# Altium schematic symbol library WCAP-FTX2.SchLib: 108 symbols (part 1 of 3)
Pins are listed as number, name and electrical type; pins without a type are passive.

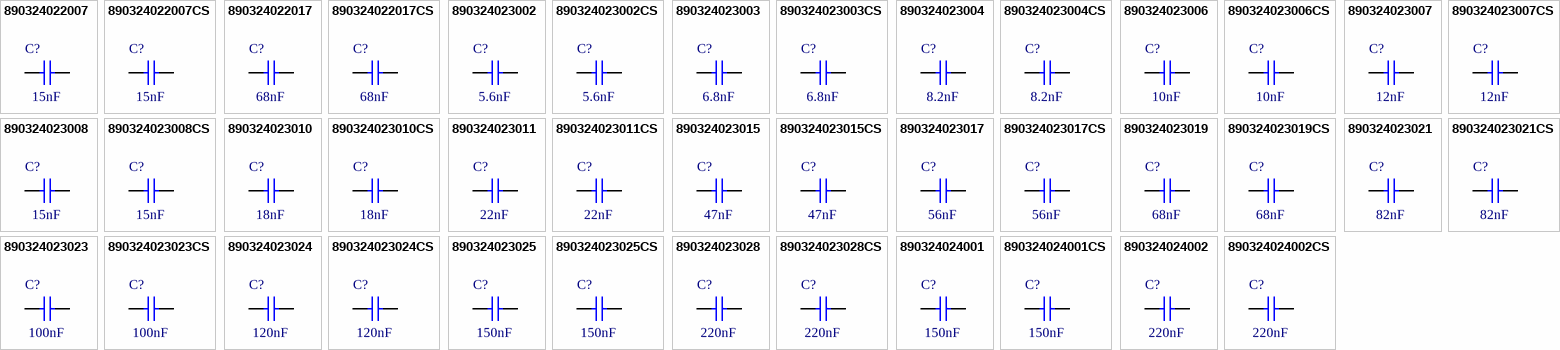
[diagram p0: symbols 890324022007 to 890324024002CS]

## 890324022007
designator C?, comment 15nF
WCAP-FTX2 Film Capacitor, THT, L11 x W6 x H10mm, 15nF, 275V; Manufacturer Part Number: 890324022007; Manufacturer: Wurth Elektronik; Capacitance Tolerance: +/-10%; Dissipation Factor @1kHz: 0.1%; Dissipation Factor @100kHz: 0.5%; Insulation Resistance: 30GΩ; Pitch: 7.5mm; Rate of Voltage Rise: 500V/μs; Technical Reference: MX2P075153K275ASPB15000; Category: Film Capacitors; Match Code: WCAP-FTX2; ComponentLink1Description: Website Link; ComponentLink1URL: https://www.we-online.com/redexpert/article/890324022007?ad; ComponentLink2Description: Datasheet Link; ComponentLink2URL: https://www.we-online.com/redexpert/spec/890324022007?ad; Mount: Through Hole; Min Operating Temperature: -40°C; Max Operating Temperature: 105°C; Packaging: Carton; Length: 11mm; Width: 6mm; Height: 10mm; Capacitance: 15nF; Dissipation Factor @10kHz: 0.1%; Rated Voltage (AC): 275V
footprint WCAP-FTX2_L11W6H10
simulation model 890324022007_15nF
pins: 1, 2

## 890324022007CS
designator C?, comment 15nF
WCAP-FTX2 Film Capacitor, THT, L11 x W6 x H10mm, 15nF, 275V; Manufacturer Part Number: 890324022007CS; Manufacturer: Wurth Elektronik; Capacitance Tolerance: +/-10%; Dissipation Factor @1kHz: 0.1%; Dissipation Factor @100kHz: 0.5%; Insulation Resistance: 30GΩ; Pitch: 7.5mm; Rate of Voltage Rise: 500V/μs; Technical Reference: MX2P075153K275ACPP55004; Category: Film Capacitors; Match Code: WCAP-FTX2; ComponentLink1Description: Website Link; ComponentLink1URL: https://www.we-online.com/redexpert/article/890324022007CS?ad; ComponentLink2Description: Datasheet Link; ComponentLink2URL: https://www.we-online.com/redexpert/spec/890324022007CS?ad; Mount: Through Hole; Min Operating Temperature: -40°C; Max Operating Temperature: 105°C; Packaging: Carton; Length: 11mm; Width: 6mm; Height: 10mm; Capacitance: 15nF; Dissipation Factor @10kHz: 0.1%; Rated Voltage (AC): 275V
footprint WCAP-FTX2_L11W6H10
simulation model 890324022007CS_15nF
pins: 1, 2

## 890324022017
designator C?, comment 68nF
WCAP-FTX2 Film Capacitor, THT, L10 x W6 x H12mm, 68nF, 275V; Manufacturer Part Number: 890324022017; Manufacturer: Wurth Elektronik; Capacitance Tolerance: +/-10%; Dissipation Factor @1kHz: 0.1%; Dissipation Factor @100kHz: 0.5%; Insulation Resistance: 30GΩ; Pitch: 7.5mm; Rate of Voltage Rise: 400V/μs; Technical Reference: MX2P075683K275ASPB15000; Category: Film Capacitors; Match Code: WCAP-FTX2; ComponentLink1Description: Website Link; ComponentLink1URL: https://www.we-online.com/redexpert/article/890324022017?ad; ComponentLink2Description: Datasheet Link; ComponentLink2URL: https://www.we-online.com/redexpert/spec/890324022017?ad; Mount: Through Hole; Min Operating Temperature: -40°C; Max Operating Temperature: 105°C; Packaging: Carton; Length: 10mm; Width: 6mm; Height: 12mm; Capacitance: 68nF; Dissipation Factor @10kHz: 0.1%; Rated Voltage (AC): 275V
footprint WCAP-FTX2_L10W6H12
simulation model 890324022017_68nF
pins: 1, 2

## 890324022017CS
designator C?, comment 68nF
WCAP-FTX2 Film Capacitor, THT, L10 x W6 x H12mm, 68nF, 275V; Manufacturer Part Number: 890324022017CS; Manufacturer: Wurth Elektronik; Capacitance Tolerance: +/-10%; Dissipation Factor @1kHz: 0.1%; Dissipation Factor @100kHz: 0.5%; Insulation Resistance: 30GΩ; Pitch: 7.5mm; Rate of Voltage Rise: 400V/μs; Technical Reference: MX2P075683K275ACPP45004; Category: Film Capacitors; Match Code: WCAP-FTX2; ComponentLink1Description: Website Link; ComponentLink1URL: https://www.we-online.com/redexpert/article/890324022017CS?ad; ComponentLink2Description: Datasheet Link; ComponentLink2URL: https://www.we-online.com/redexpert/spec/890324022017CS?ad; Mount: Through Hole; Min Operating Temperature: -40°C; Max Operating Temperature: 105°C; Packaging: Carton; Length: 10mm; Width: 6mm; Height: 12mm; Capacitance: 68nF; Dissipation Factor @10kHz: 0.1%; Rated Voltage (AC): 275V
footprint WCAP-FTX2_L10W6H12
simulation model 890324022017CS_68nF
pins: 1, 2

## 890324023002
designator C?, comment 5.6nF
WCAP-FTX2 Film Capacitor, THT, L13 x W5 x H10mm, 5.6nF, 275V; Manufacturer Part Number: 890324023002; Manufacturer: Wurth Elektronik; Capacitance Tolerance: +/-10%; Dissipation Factor @1kHz: 0.1%; Dissipation Factor @100kHz: 0.5%; Insulation Resistance: 30GΩ; Pitch: 10mm; Rate of Voltage Rise: 600V/μs; Technical Reference: MX2P010562K275ASPB15000; Category: Film Capacitors; Match Code: WCAP-FTX2; ComponentLink1Description: Website Link; ComponentLink1URL: https://www.we-online.com/redexpert/article/890324023002?ad; ComponentLink2Description: Datasheet Link; ComponentLink2URL: https://www.we-online.com/redexpert/spec/890324023002?ad; Mount: Through Hole; Min Operating Temperature: -40°C; Max Operating Temperature: 105°C; Packaging: Carton; Length: 13mm; Width: 5mm; Height: 10mm; Capacitance: 5.6nF; Dissipation Factor @10kHz: 0.1%; Rated Voltage (AC): 275V
footprint WCAP-FTX2_L13W5H10
simulation model 890324023002_5.6nF
pins: 1, 2

## 890324023002CS
designator C?, comment 5.6nF
WCAP-FTX2 Film Capacitor, THT, L13 x W5 x H10mm, 5.6nF, 275V; Manufacturer Part Number: 890324023002CS; Manufacturer: Wurth Elektronik; Capacitance Tolerance: +/-10%; Dissipation Factor @1kHz: 0.1%; Dissipation Factor @100kHz: 0.5%; Insulation Resistance: 30GΩ; Pitch: 10mm; Rate of Voltage Rise: 600V/μs; Technical Reference: MX2P010562K275ACPP55004; Category: Film Capacitors; Match Code: WCAP-FTX2; ComponentLink1Description: Website Link; ComponentLink1URL: https://www.we-online.com/redexpert/article/890324023002CS?ad; ComponentLink2Description: Datasheet Link; ComponentLink2URL: https://www.we-online.com/redexpert/spec/890324023002CS?ad; Mount: Through Hole; Min Operating Temperature: -40°C; Max Operating Temperature: 105°C; Packaging: Carton; Length: 13mm; Width: 5mm; Height: 10mm; Capacitance: 5.6nF; Dissipation Factor @10kHz: 0.1%; Rated Voltage (AC): 275V
footprint WCAP-FTX2_L13W5H10
simulation model 890324023002CS_5.6nF
pins: 1, 2

## 890324023003
designator C?, comment 6.8nF
WCAP-FTX2 Film Capacitor, THT, L13 x W5 x H10mm, 6.8nF, 275V; Manufacturer Part Number: 890324023003; Manufacturer: Wurth Elektronik; Capacitance Tolerance: +/-10%; Dissipation Factor @1kHz: 0.1%; Dissipation Factor @100kHz: 0.5%; Insulation Resistance: 30GΩ; Pitch: 10mm; Rate of Voltage Rise: 400V/μs; Technical Reference: MX2P010682K275ASPB15000; Category: Film Capacitors; Match Code: WCAP-FTX2; ComponentLink1Description: Website Link; ComponentLink1URL: https://www.we-online.com/redexpert/article/890324023003?ad; ComponentLink2Description: Datasheet Link; ComponentLink2URL: https://www.we-online.com/redexpert/spec/890324023003?ad; Mount: Through Hole; Min Operating Temperature: -40°C; Max Operating Temperature: 105°C; Packaging: Carton; Length: 13mm; Width: 5mm; Height: 10mm; Capacitance: 6.8nF; Dissipation Factor @10kHz: 0.1%; Rated Voltage (AC): 275V
footprint WCAP-FTX2_L13W5H10
simulation model 890324023003_6.8nF
pins: 1, 2

## 890324023003CS
designator C?, comment 6.8nF
WCAP-FTX2 Film Capacitor, THT, L13 x W5 x H10mm, 6.8nF, 275V; Manufacturer Part Number: 890324023003CS; Manufacturer: Wurth Elektronik; Capacitance Tolerance: +/-10%; Dissipation Factor @1kHz: 0.1%; Dissipation Factor @100kHz: 0.5%; Insulation Resistance: 30GΩ; Pitch: 10mm; Rate of Voltage Rise: 400V/μs; Technical Reference: MX2P010682K275ACPP55004; Category: Film Capacitors; Match Code: WCAP-FTX2; ComponentLink1Description: Website Link; ComponentLink1URL: https://www.we-online.com/redexpert/article/890324023003CS?ad; ComponentLink2Description: Datasheet Link; ComponentLink2URL: https://www.we-online.com/redexpert/spec/890324023003CS?ad; Mount: Through Hole; Min Operating Temperature: -40°C; Max Operating Temperature: 105°C; Packaging: Carton; Length: 13mm; Width: 5mm; Height: 10mm; Capacitance: 6.8nF; Dissipation Factor @10kHz: 0.1%; Rated Voltage (AC): 275V
footprint WCAP-FTX2_L13W5H10
simulation model 890324023003CS_6.8nF
pins: 1, 2

## 890324023004
designator C?, comment 8.2nF
WCAP-FTX2 Film Capacitor, THT, L13 x W5 x H10mm, 8.2nF, 275V; Manufacturer Part Number: 890324023004; Manufacturer: Wurth Elektronik; Capacitance Tolerance: +/-10%; Dissipation Factor @1kHz: 0.1%; Dissipation Factor @100kHz: 0.5%; Insulation Resistance: 30GΩ; Pitch: 10mm; Rate of Voltage Rise: 400V/μs; Technical Reference: MX2P010822K275ASPB15000; Category: Film Capacitors; Match Code: WCAP-FTX2; ComponentLink1Description: Website Link; ComponentLink1URL: https://www.we-online.com/redexpert/article/890324023004?ad; ComponentLink2Description: Datasheet Link; ComponentLink2URL: https://www.we-online.com/redexpert/spec/890324023004?ad; Mount: Through Hole; Min Operating Temperature: -40°C; Max Operating Temperature: 105°C; Packaging: Carton; Length: 13mm; Width: 5mm; Height: 10mm; Capacitance: 8.2nF; Dissipation Factor @10kHz: 0.1%; Rated Voltage (AC): 275V
footprint WCAP-FTX2_L13W5H10
simulation model 890324023004_8.2nF
pins: 1, 2

## 890324023004CS
designator C?, comment 8.2nF
WCAP-FTX2 Film Capacitor, THT, L13 x W5 x H10mm, 8.2nF, 275V; Manufacturer Part Number: 890324023004CS; Manufacturer: Wurth Elektronik; Capacitance Tolerance: +/-10%; Dissipation Factor @1kHz: 0.1%; Dissipation Factor @100kHz: 0.5%; Insulation Resistance: 30GΩ; Pitch: 10mm; Rate of Voltage Rise: 400V/μs; Technical Reference: MX2P010822K275ACPP55004; Category: Film Capacitors; Match Code: WCAP-FTX2; ComponentLink1Description: Website Link; ComponentLink1URL: https://www.we-online.com/redexpert/article/890324023004CS?ad; ComponentLink2Description: Datasheet Link; ComponentLink2URL: https://www.we-online.com/redexpert/spec/890324023004CS?ad; Mount: Through Hole; Min Operating Temperature: -40°C; Max Operating Temperature: 105°C; Packaging: Carton; Length: 13mm; Width: 5mm; Height: 10mm; Capacitance: 8.2nF; Dissipation Factor @10kHz: 0.1%; Rated Voltage (AC): 275V
footprint WCAP-FTX2_L13W5H10
simulation model 890324023004CS_8.2nF
pins: 1, 2

## 890324023006
designator C?, comment 10nF
WCAP-FTX2 Film Capacitor, THT, L13 x W5 x H11mm, 10nF, 275V; Manufacturer Part Number: 890324023006; Manufacturer: Wurth Elektronik; Capacitance Tolerance: +/-10%; Dissipation Factor @1kHz: 0.1%; Dissipation Factor @100kHz: 0.5%; Insulation Resistance: 30GΩ; Pitch: 10mm; Rate of Voltage Rise: 500V/μs; Technical Reference: MX2P010103K275ASPB16000; Category: Film Capacitors; Match Code: WCAP-FTX2; ComponentLink1Description: Website Link; ComponentLink1URL: https://www.we-online.com/redexpert/article/890324023006?ad; ComponentLink2Description: Datasheet Link; ComponentLink2URL: https://www.we-online.com/redexpert/spec/890324023006?ad; Mount: Through Hole; Min Operating Temperature: -40°C; Max Operating Temperature: 105°C; Packaging: Carton; Length: 13mm; Width: 5mm; Height: 11mm; Capacitance: 10nF; Dissipation Factor @10kHz: 0.1%; Rated Voltage (AC): 275V
footprint WCAP-FTX2_L13W5H11
simulation model 890324023006_10nF
pins: 1, 2

## 890324023006CS
designator C?, comment 10nF
WCAP-FTX2 Film Capacitor, THT, L13 x W5 x H11mm, 10nF, 275V; Manufacturer Part Number: 890324023006CS; Manufacturer: Wurth Elektronik; Capacitance Tolerance: +/-10%; Dissipation Factor @1kHz: 0.1%; Dissipation Factor @100kHz: 0.5%; Insulation Resistance: 30GΩ; Pitch: 10mm; Rate of Voltage Rise: 500V/μs; Technical Reference: MX2P010103K275ACPP56004; Category: Film Capacitors; Match Code: WCAP-FTX2; ComponentLink1Description: Website Link; ComponentLink1URL: https://www.we-online.com/redexpert/article/890324023006CS?ad; ComponentLink2Description: Datasheet Link; ComponentLink2URL: https://www.we-online.com/redexpert/spec/890324023006CS?ad; Mount: Through Hole; Min Operating Temperature: -40°C; Max Operating Temperature: 105°C; Packaging: Carton; Length: 13mm; Width: 5mm; Height: 11mm; Capacitance: 10nF; Dissipation Factor @10kHz: 0.1%; Rated Voltage (AC): 275V
footprint WCAP-FTX2_L13W5H11
simulation model 890324023006CS_10nF
pins: 1, 2

## 890324023007
designator C?, comment 12nF
WCAP-FTX2 Film Capacitor, THT, L13 x W5 x H11mm, 12nF, 275V; Manufacturer Part Number: 890324023007; Manufacturer: Wurth Elektronik; Capacitance Tolerance: +/-10%; Dissipation Factor @1kHz: 0.1%; Dissipation Factor @100kHz: 0.5%; Insulation Resistance: 30GΩ; Pitch: 10mm; Rate of Voltage Rise: 300V/μs; Technical Reference: MX2P010123K275ASPB15000; Category: Film Capacitors; Match Code: WCAP-FTX2; ComponentLink1Description: Website Link; ComponentLink1URL: https://www.we-online.com/redexpert/article/890324023007?ad; ComponentLink2Description: Datasheet Link; ComponentLink2URL: https://www.we-online.com/redexpert/spec/890324023007?ad; Mount: Through Hole; Min Operating Temperature: -40°C; Max Operating Temperature: 105°C; Packaging: Carton; Length: 13mm; Width: 5mm; Height: 11mm; Capacitance: 12nF; Dissipation Factor @10kHz: 0.1%; Rated Voltage (AC): 275V
footprint WCAP-FTX2_L13W5H11
simulation model 890324023007_12nF
pins: 1, 2

## 890324023007CS
designator C?, comment 12nF
WCAP-FTX2 Film Capacitor, THT, L13 x W5 x H11mm, 12nF, 275V; Manufacturer Part Number: 890324023007CS; Manufacturer: Wurth Elektronik; Capacitance Tolerance: +/-10%; Dissipation Factor @1kHz: 0.1%; Dissipation Factor @100kHz: 0.5%; Insulation Resistance: 30GΩ; Pitch: 10mm; Rate of Voltage Rise: 300V/μs; Technical Reference: MX2P010123K275ACPP55004; Category: Film Capacitors; Match Code: WCAP-FTX2; ComponentLink1Description: Website Link; ComponentLink1URL: https://www.we-online.com/redexpert/article/890324023007CS?ad; ComponentLink2Description: Datasheet Link; ComponentLink2URL: https://www.we-online.com/redexpert/spec/890324023007CS?ad; Mount: Through Hole; Min Operating Temperature: -40°C; Max Operating Temperature: 105°C; Packaging: Carton; Length: 13mm; Width: 5mm; Height: 11mm; Capacitance: 12nF; Dissipation Factor @10kHz: 0.1%; Rated Voltage (AC): 275V
footprint WCAP-FTX2_L13W5H11
simulation model 890324023007CS_12nF
pins: 1, 2

## 890324023008
designator C?, comment 15nF
WCAP-FTX2 Film Capacitor, THT, L13 x W4.5 x H9.5mm, 15nF, 275V; Manufacturer Part Number: 890324023008; Manufacturer: Wurth Elektronik; Capacitance Tolerance: +/-10%; Dissipation Factor @1kHz: 0.1%; Dissipation Factor @100kHz: 0.5%; Insulation Resistance: 30GΩ; Pitch: 10mm; Rate of Voltage Rise: 400V/μs; Technical Reference: MX2P010153K275ASPB15000; Category: Film Capacitors; Match Code: WCAP-FTX2; ComponentLink1Description: Website Link; ComponentLink1URL: https://www.we-online.com/redexpert/article/890324023008?ad; ComponentLink2Description: Datasheet Link; ComponentLink2URL: https://www.we-online.com/redexpert/spec/890324023008?ad; Mount: Through Hole; Min Operating Temperature: -40°C; Max Operating Temperature: 105°C; Packaging: Carton; Length: 13mm; Width: 4.5mm; Height: 9.5mm; Capacitance: 15nF; Dissipation Factor @10kHz: 0.1%; Rated Voltage (AC): 275V
footprint WCAP-FTX2_L13W4.5H9.5
simulation model 890324023008_15nF
pins: 1, 2

## 890324023008CS
designator C?, comment 15nF
WCAP-FTX2 Film Capacitor, THT, L13 x W4.5 x H9.5mm, 15nF, 275V; Manufacturer Part Number: 890324023008CS; Manufacturer: Wurth Elektronik; Capacitance Tolerance: +/-10%; Dissipation Factor @1kHz: 0.1%; Dissipation Factor @100kHz: 0.5%; Insulation Resistance: 30GΩ; Pitch: 10mm; Rate of Voltage Rise: 400V/μs; Technical Reference: MX2P010153K275ACPP55004; Category: Film Capacitors; Match Code: WCAP-FTX2; ComponentLink1Description: Website Link; ComponentLink1URL: https://www.we-online.com/redexpert/article/890324023008CS?ad; ComponentLink2Description: Datasheet Link; ComponentLink2URL: https://www.we-online.com/redexpert/spec/890324023008CS?ad; Mount: Through Hole; Min Operating Temperature: -40°C; Max Operating Temperature: 105°C; Packaging: Carton; Length: 13mm; Width: 4.5mm; Height: 9.5mm; Capacitance: 15nF; Dissipation Factor @10kHz: 0.1%; Rated Voltage (AC): 275V
footprint WCAP-FTX2_L13W4.5H9.5
simulation model 890324023008CS_15nF
pins: 1, 2

## 890324023010
designator C?, comment 18nF
WCAP-FTX2 Film Capacitor, THT, L13 x W5 x H11mm, 18nF, 275V; Manufacturer Part Number: 890324023010; Manufacturer: Wurth Elektronik; Capacitance Tolerance: +/-10%; Dissipation Factor @1kHz: 0.1%; Dissipation Factor @100kHz: 0.5%; Insulation Resistance: 30GΩ; Pitch: 10mm; Rate of Voltage Rise: 400V/μs; Technical Reference: MX2P010183K275ASPB15000; Category: Film Capacitors; Match Code: WCAP-FTX2; ComponentLink1Description: Website Link; ComponentLink1URL: https://www.we-online.com/redexpert/article/890324023010?ad; ComponentLink2Description: Datasheet Link; ComponentLink2URL: https://www.we-online.com/redexpert/spec/890324023010?ad; Mount: Through Hole; Min Operating Temperature: -40°C; Max Operating Temperature: 105°C; Packaging: Carton; Length: 13mm; Width: 5mm; Height: 11mm; Capacitance: 18nF; Dissipation Factor @10kHz: 0.1%; Rated Voltage (AC): 275V
footprint WCAP-FTX2_L13W5H11
simulation model 890324023010_18nF
pins: 1, 2

## 890324023010CS
designator C?, comment 18nF
WCAP-FTX2 Film Capacitor, THT, L13 x W5 x H11mm, 18nF, 275V; Manufacturer Part Number: 890324023010CS; Manufacturer: Wurth Elektronik; Capacitance Tolerance: +/-10%; Dissipation Factor @1kHz: 0.1%; Dissipation Factor @100kHz: 0.5%; Insulation Resistance: 30GΩ; Pitch: 10mm; Rate of Voltage Rise: 400V/μs; Technical Reference: MX2P010183K275ACPP55004; Category: Film Capacitors; Match Code: WCAP-FTX2; ComponentLink1Description: Website Link; ComponentLink1URL: https://www.we-online.com/redexpert/article/890324023010CS?ad; ComponentLink2Description: Datasheet Link; ComponentLink2URL: https://www.we-online.com/redexpert/spec/890324023010CS?ad; Mount: Through Hole; Min Operating Temperature: -40°C; Max Operating Temperature: 105°C; Packaging: Carton; Length: 13mm; Width: 5mm; Height: 11mm; Capacitance: 18nF; Dissipation Factor @10kHz: 0.1%; Rated Voltage (AC): 275V
footprint WCAP-FTX2_L13W5H11
simulation model 890324023010CS_18nF
pins: 1, 2

## 890324023011
designator C?, comment 22nF
WCAP-FTX2 Film Capacitor, THT, L13 x W4.5 x H9.5mm, 22nF, 275V; Manufacturer Part Number: 890324023011; Manufacturer: Wurth Elektronik; Capacitance Tolerance: +/-10%; Dissipation Factor @1kHz: 0.1%; Dissipation Factor @100kHz: 0.5%; Insulation Resistance: 30GΩ; Pitch: 10mm; Rate of Voltage Rise: 400V/μs; Technical Reference: MX2P010223K275ASPB15000; Category: Film Capacitors; Match Code: WCAP-FTX2; ComponentLink1Description: Website Link; ComponentLink1URL: https://www.we-online.com/redexpert/article/890324023011?ad; ComponentLink2Description: Datasheet Link; ComponentLink2URL: https://www.we-online.com/redexpert/spec/890324023011?ad; Mount: Through Hole; Min Operating Temperature: -40°C; Max Operating Temperature: 105°C; Packaging: Carton; Length: 13mm; Width: 4.5mm; Height: 9.5mm; Capacitance: 22nF; Dissipation Factor @10kHz: 0.1%; Rated Voltage (AC): 275V
footprint WCAP-FTX2_L13W4.5H9.5
simulation model 890324023011_22nF
pins: 1, 2

## 890324023011CS
designator C?, comment 22nF
WCAP-FTX2 Film Capacitor, THT, L13 x W4.5 x H9.5mm, 22nF, 275V; Manufacturer Part Number: 890324023011CS; Manufacturer: Wurth Elektronik; Capacitance Tolerance: +/-10%; Dissipation Factor @1kHz: 0.1%; Dissipation Factor @100kHz: 0.5%; Insulation Resistance: 30GΩ; Pitch: 10mm; Rate of Voltage Rise: 400V/μs; Technical Reference: MX2P010223K275ACPP55004; Category: Film Capacitors; Match Code: WCAP-FTX2; ComponentLink1Description: Website Link; ComponentLink1URL: https://www.we-online.com/redexpert/article/890324023011CS?ad; ComponentLink2Description: Datasheet Link; ComponentLink2URL: https://www.we-online.com/redexpert/spec/890324023011CS?ad; Mount: Through Hole; Min Operating Temperature: -40°C; Max Operating Temperature: 105°C; Packaging: Carton; Length: 13mm; Width: 4.5mm; Height: 9.5mm; Capacitance: 22nF; Dissipation Factor @10kHz: 0.1%; Rated Voltage (AC): 275V
footprint WCAP-FTX2_L13W4.5H9.5
simulation model 890324023011CS_22nF
pins: 1, 2

## 890324023015
designator C?, comment 47nF
WCAP-FTX2 Film Capacitor, THT, L13 x W4.5 x H9.5mm, 47nF, 275V; Manufacturer Part Number: 890324023015; Manufacturer: Wurth Elektronik; Capacitance Tolerance: +/-10%; Dissipation Factor @1kHz: 0.1%; Dissipation Factor @100kHz: 0.5%; Insulation Resistance: 30GΩ; Pitch: 10mm; Rate of Voltage Rise: 300V/μs; Technical Reference: MX2P010473K275ASPB15000; Category: Film Capacitors; Match Code: WCAP-FTX2; ComponentLink1Description: Website Link; ComponentLink1URL: https://www.we-online.com/redexpert/article/890324023015?ad; ComponentLink2Description: Datasheet Link; ComponentLink2URL: https://www.we-online.com/redexpert/spec/890324023015?ad; Mount: Through Hole; Min Operating Temperature: -40°C; Max Operating Temperature: 105°C; Packaging: Carton; Length: 13mm; Width: 4.5mm; Height: 9.5mm; Capacitance: 47nF; Dissipation Factor @10kHz: 0.1%; Rated Voltage (AC): 275V
footprint WCAP-FTX2_L13W4.5H9.5
simulation model 890324023015_47nF
pins: 1, 2

## 890324023015CS
designator C?, comment 47nF
WCAP-FTX2 Film Capacitor, THT, L13 x W4.5 x H9.5mm, 47nF, 275V; Manufacturer Part Number: 890324023015CS; Manufacturer: Wurth Elektronik; Capacitance Tolerance: +/-10%; Dissipation Factor @1kHz: 0.1%; Dissipation Factor @100kHz: 0.5%; Insulation Resistance: 30GΩ; Pitch: 10mm; Rate of Voltage Rise: 300V/μs; Technical Reference: MX2P010473K275ACPP55004; Category: Film Capacitors; Match Code: WCAP-FTX2; ComponentLink1Description: Website Link; ComponentLink1URL: https://www.we-online.com/redexpert/article/890324023015CS?ad; ComponentLink2Description: Datasheet Link; ComponentLink2URL: https://www.we-online.com/redexpert/spec/890324023015CS?ad; Mount: Through Hole; Min Operating Temperature: -40°C; Max Operating Temperature: 105°C; Packaging: Carton; Length: 13mm; Width: 4.5mm; Height: 9.5mm; Capacitance: 47nF; Dissipation Factor @10kHz: 0.1%; Rated Voltage (AC): 275V
footprint WCAP-FTX2_L13W4.5H9.5
simulation model 890324023015CS_47nF
pins: 1, 2

## 890324023017
designator C?, comment 56nF
WCAP-FTX2 Film Capacitor, THT, L13 x W5 x H10mm, 56nF, 275V; Manufacturer Part Number: 890324023017; Manufacturer: Wurth Elektronik; Capacitance Tolerance: +/-10%; Dissipation Factor @1kHz: 0.1%; Dissipation Factor @100kHz: 0.5%; Insulation Resistance: 30GΩ; Pitch: 10mm; Rate of Voltage Rise: 300V/μs; Technical Reference: MX2P010563K275ASPB15000; Category: Film Capacitors; Match Code: WCAP-FTX2; ComponentLink1Description: Website Link; ComponentLink1URL: https://www.we-online.com/redexpert/article/890324023017?ad; ComponentLink2Description: Datasheet Link; ComponentLink2URL: https://www.we-online.com/redexpert/spec/890324023017?ad; Mount: Through Hole; Min Operating Temperature: -40°C; Max Operating Temperature: 105°C; Packaging: Carton; Length: 13mm; Width: 5mm; Height: 10mm; Capacitance: 56nF; Dissipation Factor @10kHz: 0.1%; Rated Voltage (AC): 275V
footprint WCAP-FTX2_L13W5H10
simulation model 890324023017_56nF
pins: 1, 2

## 890324023017CS
designator C?, comment 56nF
WCAP-FTX2 Film Capacitor, THT, L13 x W5 x H10mm, 56nF, 275V; Manufacturer Part Number: 890324023017CS; Manufacturer: Wurth Elektronik; Capacitance Tolerance: +/-10%; Dissipation Factor @1kHz: 0.1%; Dissipation Factor @100kHz: 0.5%; Insulation Resistance: 30GΩ; Pitch: 10mm; Rate of Voltage Rise: 300V/μs; Technical Reference: MX2P010563K275ACPP55004; Category: Film Capacitors; Match Code: WCAP-FTX2; ComponentLink1Description: Website Link; ComponentLink1URL: https://www.we-online.com/redexpert/article/890324023017CS?ad; ComponentLink2Description: Datasheet Link; ComponentLink2URL: https://www.we-online.com/redexpert/spec/890324023017CS?ad; Mount: Through Hole; Min Operating Temperature: -40°C; Max Operating Temperature: 105°C; Packaging: Carton; Length: 13mm; Width: 5mm; Height: 10mm; Capacitance: 56nF; Dissipation Factor @10kHz: 0.1%; Rated Voltage (AC): 275V
footprint WCAP-FTX2_L13W5H10
simulation model 890324023017CS_56nF
pins: 1, 2

## 890324023019
designator C?, comment 68nF
WCAP-FTX2 Film Capacitor, THT, L13 x W7 x H13mm, 68nF, 275V; Manufacturer Part Number: 890324023019; Manufacturer: Wurth Elektronik; Capacitance Tolerance: +/-10%; Dissipation Factor @1kHz: 0.1%; Dissipation Factor @100kHz: 0.5%; Insulation Resistance: 30GΩ; Pitch: 10mm; Rate of Voltage Rise: 400V/μs; Technical Reference: MX2P010683K275ASPB16000; Category: Film Capacitors; Match Code: WCAP-FTX2; ComponentLink1Description: Website Link; ComponentLink1URL: https://www.we-online.com/redexpert/article/890324023019?ad; ComponentLink2Description: Datasheet Link; ComponentLink2URL: https://www.we-online.com/redexpert/spec/890324023019?ad; Mount: Through Hole; Min Operating Temperature: -40°C; Max Operating Temperature: 105°C; Packaging: Carton; Length: 13mm; Width: 7mm; Height: 13mm; Capacitance: 68nF; Dissipation Factor @10kHz: 0.1%; Rated Voltage (AC): 275V
footprint WCAP-FTX2_L13W7H13
simulation model 890324023019_68nF
pins: 1, 2

## 890324023019CS
designator C?, comment 68nF
WCAP-FTX2 Film Capacitor, THT, L13 x W7 x H13mm, 68nF, 275V; Manufacturer Part Number: 890324023019CS; Manufacturer: Wurth Elektronik; Capacitance Tolerance: +/-10%; Dissipation Factor @1kHz: 0.1%; Dissipation Factor @100kHz: 0.5%; Insulation Resistance: 30GΩ; Pitch: 10mm; Rate of Voltage Rise: 400V/μs; Technical Reference: MX2P010683K275ACPP46004; Category: Film Capacitors; Match Code: WCAP-FTX2; ComponentLink1Description: Website Link; ComponentLink1URL: https://www.we-online.com/redexpert/article/890324023019CS?ad; ComponentLink2Description: Datasheet Link; ComponentLink2URL: https://www.we-online.com/redexpert/spec/890324023019CS?ad; Mount: Through Hole; Min Operating Temperature: -40°C; Max Operating Temperature: 105°C; Packaging: Carton; Length: 13mm; Width: 7mm; Height: 13mm; Capacitance: 68nF; Dissipation Factor @10kHz: 0.1%; Rated Voltage (AC): 275V
footprint WCAP-FTX2_L13W7H13
simulation model 890324023019CS_68nF
pins: 1, 2

## 890324023021
designator C?, comment 82nF
WCAP-FTX2 Film Capacitor, THT, L13 x W7 x H13mm, 82nF, 275V; Manufacturer Part Number: 890324023021; Manufacturer: Wurth Elektronik; Capacitance Tolerance: +/-10%; Dissipation Factor @1kHz: 0.1%; Dissipation Factor @100kHz: 0.5%; Insulation Resistance: 30GΩ; Pitch: 10mm; Rate of Voltage Rise: 400V/μs; Technical Reference: MX2P010823K275ASPB16000; Category: Film Capacitors; Match Code: WCAP-FTX2; ComponentLink1Description: Website Link; ComponentLink1URL: https://www.we-online.com/redexpert/article/890324023021?ad; ComponentLink2Description: Datasheet Link; ComponentLink2URL: https://www.we-online.com/redexpert/spec/890324023021?ad; Mount: Through Hole; Min Operating Temperature: -40°C; Max Operating Temperature: 105°C; Packaging: Carton; Length: 13mm; Width: 7mm; Height: 13mm; Capacitance: 82nF; Dissipation Factor @10kHz: 0.1%; Rated Voltage (AC): 275V
footprint WCAP-FTX2_L13W7H13
simulation model 890324023021_82nF
pins: 1, 2

## 890324023021CS
designator C?, comment 82nF
WCAP-FTX2 Film Capacitor, THT, L13 x W7 x H13mm, 82nF, 275V; Manufacturer Part Number: 890324023021CS; Manufacturer: Wurth Elektronik; Capacitance Tolerance: +/-10%; Dissipation Factor @1kHz: 0.1%; Dissipation Factor @100kHz: 0.5%; Insulation Resistance: 30GΩ; Pitch: 10mm; Rate of Voltage Rise: 400V/μs; Technical Reference: MX2P010823K275ACPP46004; Category: Film Capacitors; Match Code: WCAP-FTX2; ComponentLink1Description: Website Link; ComponentLink1URL: https://www.we-online.com/redexpert/article/890324023021CS?ad; ComponentLink2Description: Datasheet Link; ComponentLink2URL: https://www.we-online.com/redexpert/spec/890324023021CS?ad; Mount: Through Hole; Min Operating Temperature: -40°C; Max Operating Temperature: 105°C; Packaging: Carton; Length: 13mm; Width: 7mm; Height: 13mm; Capacitance: 82nF; Dissipation Factor @10kHz: 0.1%; Rated Voltage (AC): 275V
footprint WCAP-FTX2_L13W7H13
simulation model 890324023021CS_82nF
pins: 1, 2

## 890324023023
designator C?, comment 100nF
WCAP-FTX2 Film Capacitor, THT, L13 x W7 x H13mm, 100nF, 275V; Manufacturer Part Number: 890324023023; Manufacturer: Wurth Elektronik; Capacitance Tolerance: +/-10%; Dissipation Factor @1kHz: 0.1%; Dissipation Factor @100kHz: 0.5%; Insulation Resistance: 30GΩ; Pitch: 10mm; Rate of Voltage Rise: 300V/μs; Technical Reference: MX2P010104K275ASPB16000; Category: Film Capacitors; Match Code: WCAP-FTX2; ComponentLink1Description: Website Link; ComponentLink1URL: https://www.we-online.com/redexpert/article/890324023023?ad; ComponentLink2Description: Datasheet Link; ComponentLink2URL: https://www.we-online.com/redexpert/spec/890324023023?ad; Mount: Through Hole; Min Operating Temperature: -40°C; Max Operating Temperature: 105°C; Packaging: Carton; Length: 13mm; Width: 7mm; Height: 13mm; Capacitance: 100nF; Dissipation Factor @10kHz: 0.1%; Rated Voltage (AC): 275V
footprint WCAP-FTX2_L13W7H13
simulation model 890324023023_100nF
pins: 1, 2

## 890324023023CS
designator C?, comment 100nF
WCAP-FTX2 Film Capacitor, THT, L13 x W7 x H13mm, 100nF, 275V; Manufacturer Part Number: 890324023023CS; Manufacturer: Wurth Elektronik; Capacitance Tolerance: +/-10%; Dissipation Factor @1kHz: 0.1%; Dissipation Factor @100kHz: 0.5%; Insulation Resistance: 30GΩ; Pitch: 10mm; Rate of Voltage Rise: 300V/μs; Technical Reference: MX2P010104K275ACPP46004; Category: Film Capacitors; Match Code: WCAP-FTX2; ComponentLink1Description: Website Link; ComponentLink1URL: https://www.we-online.com/redexpert/article/890324023023CS?ad; ComponentLink2Description: Datasheet Link; ComponentLink2URL: https://www.we-online.com/redexpert/spec/890324023023CS?ad; Mount: Through Hole; Min Operating Temperature: -40°C; Max Operating Temperature: 105°C; Packaging: Carton; Length: 13mm; Width: 7mm; Height: 13mm; Capacitance: 100nF; Dissipation Factor @10kHz: 0.1%; Rated Voltage (AC): 275V
footprint WCAP-FTX2_L13W7H13
simulation model 890324023023CS_100nF
pins: 1, 2

## 890324023024
designator C?, comment 120nF
WCAP-FTX2 Film Capacitor, THT, L13 x W7 x H13mm, 120nF, 275V; Manufacturer Part Number: 890324023024; Manufacturer: Wurth Elektronik; Capacitance Tolerance: +/-10%; Dissipation Factor @1kHz: 0.1%; Dissipation Factor @10kHz: 0.2%; Dissipation Factor @100kHz: 2%; Insulation Resistance: 30GΩ; Pitch: 10mm; Rate of Voltage Rise: 400V/μs; Technical Reference: MX2P010124K275ASPB15000; Category: Film Capacitors; Match Code: WCAP-FTX2; ComponentLink1Description: Website Link; ComponentLink1URL: https://www.we-online.com/redexpert/article/890324023024?ad; ComponentLink2Description: Datasheet Link; ComponentLink2URL: https://www.we-online.com/redexpert/spec/890324023024?ad; Mount: Through Hole; Min Operating Temperature: -40°C; Max Operating Temperature: 105°C; Packaging: Carton; Length: 13mm; Width: 7mm; Height: 13mm; Capacitance: 120nF; Rated Voltage (AC): 275V
footprint WCAP-FTX2_L13W7H13
simulation model 890324023024_120nF
pins: 1, 2

## 890324023024CS
designator C?, comment 120nF
WCAP-FTX2 Film Capacitor, THT, L13 x W7 x H13mm, 120nF, 275V; Manufacturer Part Number: 890324023024CS; Manufacturer: Wurth Elektronik; Capacitance Tolerance: +/-10%; Dissipation Factor @1kHz: 0.1%; Dissipation Factor @10kHz: 0.2%; Dissipation Factor @100kHz: 2%; Insulation Resistance: 30GΩ; Pitch: 10mm; Rate of Voltage Rise: 400V/μs; Technical Reference: MX2P010124K275ACPP45004; Category: Film Capacitors; Match Code: WCAP-FTX2; ComponentLink1Description: Website Link; ComponentLink1URL: https://www.we-online.com/redexpert/article/890324023024CS?ad; ComponentLink2Description: Datasheet Link; ComponentLink2URL: https://www.we-online.com/redexpert/spec/890324023024CS?ad; Mount: Through Hole; Min Operating Temperature: -40°C; Max Operating Temperature: 105°C; Packaging: Carton; Length: 13mm; Width: 7mm; Height: 13mm; Capacitance: 120nF; Rated Voltage (AC): 275V
footprint WCAP-FTX2_L13W7H13
simulation model 890324023024CS_120nF
pins: 1, 2

## 890324023025
designator C?, comment 150nF
WCAP-FTX2 Film Capacitor, THT, L13 x W7 x H12mm, 150nF, 275V; Manufacturer Part Number: 890324023025; Manufacturer: Wurth Elektronik; Capacitance Tolerance: +/-10%; Dissipation Factor @1kHz: 0.1%; Dissipation Factor @10kHz: 0.2%; Dissipation Factor @100kHz: 2%; Insulation Resistance: 30GΩ; Pitch: 10mm; Rate of Voltage Rise: 300V/μs; Technical Reference: MX2P010154K275ASPB15000; Category: Film Capacitors; Match Code: WCAP-FTX2; ComponentLink1Description: Website Link; ComponentLink1URL: https://www.we-online.com/redexpert/article/890324023025?ad; ComponentLink2Description: Datasheet Link; ComponentLink2URL: https://www.we-online.com/redexpert/spec/890324023025?ad; Mount: Through Hole; Min Operating Temperature: -40°C; Max Operating Temperature: 105°C; Packaging: Carton; Length: 13mm; Width: 7mm; Height: 12mm; Capacitance: 150nF; Rated Voltage (AC): 275V
footprint WCAP-FTX2_L13W7H12
simulation model 890324023025_150nF
pins: 1, 2

## 890324023025CS
designator C?, comment 150nF
WCAP-FTX2 Film Capacitor, THT, L13 x W7 x H12mm, 150nF, 275V; Manufacturer Part Number: 890324023025CS; Manufacturer: Wurth Elektronik; Capacitance Tolerance: +/-10%; Dissipation Factor @1kHz: 0.1%; Dissipation Factor @10kHz: 0.2%; Dissipation Factor @100kHz: 2%; Insulation Resistance: 30GΩ; Pitch: 10mm; Rate of Voltage Rise: 300V/μs; Technical Reference: MX2P010154K275ACPP45004; Category: Film Capacitors; Match Code: WCAP-FTX2; ComponentLink1Description: Website Link; ComponentLink1URL: https://www.we-online.com/redexpert/article/890324023025CS?ad; ComponentLink2Description: Datasheet Link; ComponentLink2URL: https://www.we-online.com/redexpert/spec/890324023025CS?ad; Mount: Through Hole; Min Operating Temperature: -40°C; Max Operating Temperature: 105°C; Packaging: Carton; Length: 13mm; Width: 7mm; Height: 12mm; Capacitance: 150nF; Rated Voltage (AC): 275V
footprint WCAP-FTX2_L13W7H12
simulation model 890324023025CS_150nF
pins: 1, 2

## 890324023028
designator C?, comment 220nF
WCAP-FTX2 Film Capacitor, THT, L13 x W8 x H14mm, 220nF, 275V; Manufacturer Part Number: 890324023028; Manufacturer: Wurth Elektronik; Capacitance Tolerance: +/-10%; Dissipation Factor @1kHz: 0.1%; Dissipation Factor @10kHz: 0.2%; Dissipation Factor @100kHz: 2%; Insulation Resistance: 30GΩ; Pitch: 10mm; Rate of Voltage Rise: 300V/μs; Technical Reference: MX2P010224K275ASPB16000; Category: Film Capacitors; Match Code: WCAP-FTX2; ComponentLink1Description: Website Link; ComponentLink1URL: https://www.we-online.com/redexpert/article/890324023028?ad; ComponentLink2Description: Datasheet Link; ComponentLink2URL: https://www.we-online.com/redexpert/spec/890324023028?ad; Mount: Through Hole; Min Operating Temperature: -40°C; Max Operating Temperature: 105°C; Packaging: Carton; Length: 13mm; Width: 8mm; Height: 14mm; Capacitance: 220nF; Rated Voltage (AC): 275V
footprint WCAP-FTX2_L13W8H14
simulation model 890324023028_220nF
pins: 1, 2

## 890324023028CS
designator C?, comment 220nF
WCAP-FTX2 Film Capacitor, THT, L13 x W8 x H14mm, 220nF, 275V; Manufacturer Part Number: 890324023028CS; Manufacturer: Wurth Elektronik; Capacitance Tolerance: +/-10%; Dissipation Factor @1kHz: 0.1%; Dissipation Factor @10kHz: 0.2%; Dissipation Factor @100kHz: 2%; Insulation Resistance: 30GΩ; Pitch: 10mm; Rate of Voltage Rise: 300V/μs; Technical Reference: MX2P010224K275ACPP46004; Category: Film Capacitors; Match Code: WCAP-FTX2; ComponentLink1Description: Website Link; ComponentLink1URL: https://www.we-online.com/redexpert/article/890324023028CS?ad; ComponentLink2Description: Datasheet Link; ComponentLink2URL: https://www.we-online.com/redexpert/spec/890324023028CS?ad; Mount: Through Hole; Min Operating Temperature: -40°C; Max Operating Temperature: 105°C; Packaging: Carton; Length: 13mm; Width: 8mm; Height: 14mm; Capacitance: 220nF; Rated Voltage (AC): 275V
footprint WCAP-FTX2_L13W8H14
simulation model 890324023028CS_220nF
pins: 1, 2

## 890324024001
designator C?, comment 150nF
WCAP-FTX2 Film Capacitor, THT, L15 x W6 x H11.5mm, 150nF, 275V; Manufacturer Part Number: 890324024001; Manufacturer: Wurth Elektronik; Capacitance Tolerance: +/-10%; Dissipation Factor @1kHz: 0.1%; Dissipation Factor @10kHz: 0.2%; Dissipation Factor @100kHz: 2%; Insulation Resistance: 30GΩ; Pitch: 12.5mm; Rate of Voltage Rise: 210V/μs; Technical Reference: MX2P125154K275ASPB15000; Category: Film Capacitors; Match Code: WCAP-FTX2; ComponentLink1Description: Website Link; ComponentLink1URL: https://www.we-online.com/redexpert/article/890324024001?ad; ComponentLink2Description: Datasheet Link; ComponentLink2URL: https://www.we-online.com/redexpert/spec/890324024001?ad; Mount: Through Hole; Min Operating Temperature: -40°C; Max Operating Temperature: 105°C; Packaging: Carton; Length: 15mm; Width: 6mm; Height: 11.5mm; Capacitance: 150nF; Rated Voltage (AC): 275V
footprint WCAP-FTX2_L15W6H11.5
simulation model 890324024001_150nF
pins: 1, 2

## 890324024001CS
designator C?, comment 150nF
WCAP-FTX2 Film Capacitor, THT, L15 x W6 x H11.5mm, 150nF, 275V; Manufacturer Part Number: 890324024001CS; Manufacturer: Wurth Elektronik; Capacitance Tolerance: +/-10%; Dissipation Factor @1kHz: 0.1%; Dissipation Factor @10kHz: 0.2%; Dissipation Factor @100kHz: 2%; Insulation Resistance: 30GΩ; Pitch: 12.5mm; Rate of Voltage Rise: 210V/μs; Technical Reference: MX2P125154K275ACPP55004; Category: Film Capacitors; Match Code: WCAP-FTX2; ComponentLink1Description: Website Link; ComponentLink1URL: https://www.we-online.com/redexpert/article/890324024001CS?ad; ComponentLink2Description: Datasheet Link; ComponentLink2URL: https://www.we-online.com/redexpert/spec/890324024001CS?ad; Mount: Through Hole; Min Operating Temperature: -40°C; Max Operating Temperature: 105°C; Packaging: Carton; Length: 15mm; Width: 6mm; Height: 11.5mm; Capacitance: 150nF; Rated Voltage (AC): 275V
footprint WCAP-FTX2_L15W6H11.5
simulation model 890324024001CS_150nF
pins: 1, 2

## 890324024002
designator C?, comment 220nF
WCAP-FTX2 Film Capacitor, THT, L15 x W7 x H12.5mm, 220nF, 275V; Manufacturer Part Number: 890324024002; Manufacturer: Wurth Elektronik; Capacitance Tolerance: +/-10%; Dissipation Factor @1kHz: 0.1%; Dissipation Factor @10kHz: 0.2%; Dissipation Factor @100kHz: 2%; Insulation Resistance: 30GΩ; Pitch: 12.5mm; Rate of Voltage Rise: 240V/μs; Technical Reference: MX2P125224K275ASPB15000; Category: Film Capacitors; Match Code: WCAP-FTX2; ComponentLink1Description: Website Link; ComponentLink1URL: https://www.we-online.com/redexpert/article/890324024002?ad; ComponentLink2Description: Datasheet Link; ComponentLink2URL: https://www.we-online.com/redexpert/spec/890324024002?ad; Mount: Through Hole; Min Operating Temperature: -40°C; Max Operating Temperature: 105°C; Packaging: Carton; Length: 15mm; Width: 7mm; Height: 12.5mm; Capacitance: 220nF; Rated Voltage (AC): 275V
footprint WCAP-FTX2_L15W7H12.5
simulation model 890324024002_220nF
pins: 1, 2

## 890324024002CS
designator C?, comment 220nF
WCAP-FTX2 Film Capacitor, THT, L15 x W7 x H12.5mm, 220nF, 275V; Manufacturer Part Number: 890324024002CS; Manufacturer: Wurth Elektronik; Capacitance Tolerance: +/-10%; Dissipation Factor @1kHz: 0.1%; Dissipation Factor @10kHz: 0.2%; Dissipation Factor @100kHz: 2%; Insulation Resistance: 30GΩ; Pitch: 12.5mm; Rate of Voltage Rise: 240V/μs; Technical Reference: MX2P125224K275ACPP45004; Category: Film Capacitors; Match Code: WCAP-FTX2; ComponentLink1Description: Website Link; ComponentLink1URL: https://www.we-online.com/redexpert/article/890324024002CS?ad; ComponentLink2Description: Datasheet Link; ComponentLink2URL: https://www.we-online.com/redexpert/spec/890324024002CS?ad; Mount: Through Hole; Min Operating Temperature: -40°C; Max Operating Temperature: 105°C; Packaging: Carton; Length: 15mm; Width: 7mm; Height: 12.5mm; Capacitance: 220nF; Rated Voltage (AC): 275V
footprint WCAP-FTX2_L15W7H12.5
simulation model 890324024002CS_220nF
pins: 1, 2

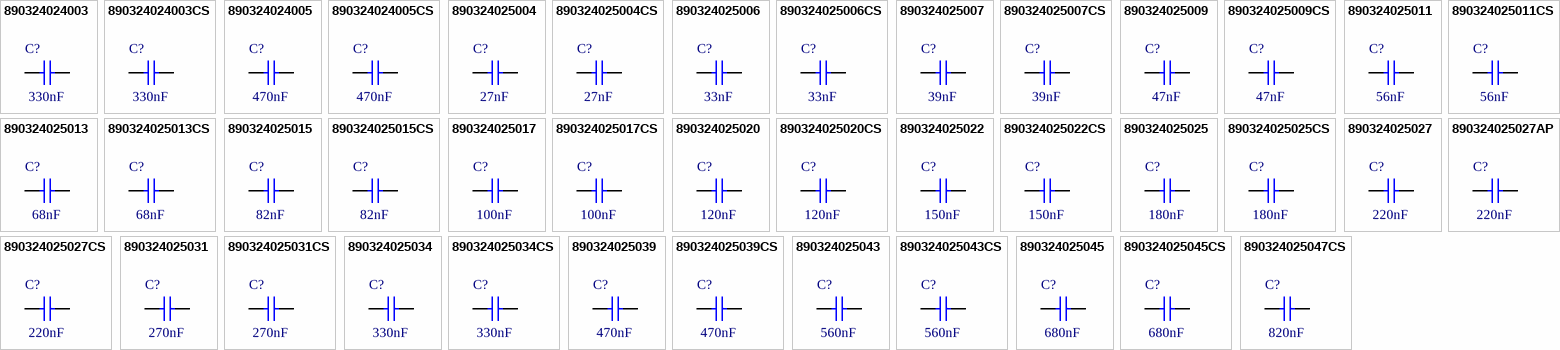
[diagram p1: symbols 890324024003 to 890324025047CS]

## 890324024003
designator C?, comment 330nF
WCAP-FTX2 Film Capacitor, THT, L15 x W8.5 x H14mm, 330nF, 275V; Manufacturer Part Number: 890324024003; Manufacturer: Wurth Elektronik; Capacitance Tolerance: +/-10%; Dissipation Factor @1kHz: 0.1%; Dissipation Factor @10kHz: 0.2%; Dissipation Factor @100kHz: 2%; Insulation Resistance: 30GΩ; Pitch: 12.5mm; Rate of Voltage Rise: 260V/μs; Technical Reference: MX2P125334K275ASPB15000; Category: Film Capacitors; Match Code: WCAP-FTX2; ComponentLink1Description: Website Link; ComponentLink1URL: https://www.we-online.com/redexpert/article/890324024003?ad; ComponentLink2Description: Datasheet Link; ComponentLink2URL: https://www.we-online.com/redexpert/spec/890324024003?ad; Mount: Through Hole; Min Operating Temperature: -40°C; Max Operating Temperature: 105°C; Packaging: Carton; Length: 15mm; Width: 8.5mm; Height: 14mm; Capacitance: 330nF; Rated Voltage (AC): 275V
footprint WCAP-FTX2_L15W8.5H14
simulation model 890324024003_330nF
pins: 1, 2

## 890324024003CS
designator C?, comment 330nF
WCAP-FTX2 Film Capacitor, THT, L15 x W8.5 x H14mm, 330nF, 275V; Manufacturer Part Number: 890324024003CS; Manufacturer: Wurth Elektronik; Capacitance Tolerance: +/-10%; Dissipation Factor @1kHz: 0.1%; Dissipation Factor @10kHz: 0.2%; Dissipation Factor @100kHz: 2%; Insulation Resistance: 30GΩ; Pitch: 12.5mm; Rate of Voltage Rise: 260V/μs; Technical Reference: MX2P125334K275ACPP45004; Category: Film Capacitors; Match Code: WCAP-FTX2; ComponentLink1Description: Website Link; ComponentLink1URL: https://www.we-online.com/redexpert/article/890324024003CS?ad; ComponentLink2Description: Datasheet Link; ComponentLink2URL: https://www.we-online.com/redexpert/spec/890324024003CS?ad; Mount: Through Hole; Min Operating Temperature: -40°C; Max Operating Temperature: 105°C; Packaging: Carton; Length: 15mm; Width: 8.5mm; Height: 14mm; Capacitance: 330nF; Rated Voltage (AC): 275V
footprint WCAP-FTX2_L15W8.5H14
simulation model 890324024003CS_330nF
pins: 1, 2

## 890324024005
designator C?, comment 470nF
WCAP-FTX2 Film Capacitor, THT, L15 x W10 x H16mm, 470nF, 275V; Manufacturer Part Number: 890324024005; Manufacturer: Wurth Elektronik; Capacitance Tolerance: +/-10%; Dissipation Factor @1kHz: 0.1%; Dissipation Factor @10kHz: 0.2%; Dissipation Factor @100kHz: 2%; Insulation Resistance: 30GΩ; Pitch: 12.5mm; Rate of Voltage Rise: 280V/μs; Technical Reference: MX2P125474K275ASPB15000; Category: Film Capacitors; Match Code: WCAP-FTX2; ComponentLink1Description: Website Link; ComponentLink1URL: https://www.we-online.com/redexpert/article/890324024005?ad; ComponentLink2Description: Datasheet Link; ComponentLink2URL: https://www.we-online.com/redexpert/spec/890324024005?ad; Mount: Through Hole; Min Operating Temperature: -40°C; Max Operating Temperature: 105°C; Packaging: Carton; Length: 15mm; Width: 10mm; Height: 16mm; Capacitance: 470nF; Rated Voltage (AC): 275V
footprint WCAP-FTX2_L15W10H16
simulation model 890324024005_470nF
pins: 1, 2

## 890324024005CS
designator C?, comment 470nF
WCAP-FTX2 Film Capacitor, THT, L15 x W10 x H16mm, 470nF, 275V; Manufacturer Part Number: 890324024005CS; Manufacturer: Wurth Elektronik; Capacitance Tolerance: +/-10%; Dissipation Factor @1kHz: 0.1%; Dissipation Factor @10kHz: 0.2%; Dissipation Factor @100kHz: 2%; Insulation Resistance: 30GΩ; Pitch: 12.5mm; Rate of Voltage Rise: 280V/μs; Technical Reference: MX2P125474K275ACPP45004; Category: Film Capacitors; Match Code: WCAP-FTX2; ComponentLink1Description: Website Link; ComponentLink1URL: https://www.we-online.com/redexpert/article/890324024005CS?ad; ComponentLink2Description: Datasheet Link; ComponentLink2URL: https://www.we-online.com/redexpert/spec/890324024005CS?ad; Mount: Through Hole; Min Operating Temperature: -40°C; Max Operating Temperature: 105°C; Packaging: Carton; Length: 15mm; Width: 10mm; Height: 16mm; Capacitance: 470nF; Rated Voltage (AC): 275V
footprint WCAP-FTX2_L15W10H16
simulation model 890324024005CS_470nF
pins: 1, 2

## 890324025004
designator C?, comment 27nF
WCAP-FTX2 Film Capacitor, THT, L18 x W5 x H11mm, 27nF, 275V; Manufacturer Part Number: 890324025004; Manufacturer: Wurth Elektronik; Capacitance Tolerance: +/-10%; Dissipation Factor @1kHz: 0.1%; Dissipation Factor @100kHz: 0.5%; Insulation Resistance: 30GΩ; Pitch: 15mm; Rate of Voltage Rise: 300V/μs; Technical Reference: MX2P015273K275ASPB15000; Category: Film Capacitors; Match Code: WCAP-FTX2; ComponentLink1Description: Website Link; ComponentLink1URL: https://www.we-online.com/redexpert/article/890324025004?ad; ComponentLink2Description: Datasheet Link; ComponentLink2URL: https://www.we-online.com/redexpert/spec/890324025004?ad; Mount: Through Hole; Min Operating Temperature: -40°C; Max Operating Temperature: 105°C; Packaging: Carton; Length: 18mm; Width: 5mm; Height: 11mm; Capacitance: 27nF; Dissipation Factor @10kHz: 0.1%; Rated Voltage (AC): 275V
footprint WCAP-FTX2_L18W5H11
simulation model 890324025004_27nF
pins: 1, 2

## 890324025004CS
designator C?, comment 27nF
WCAP-FTX2 Film Capacitor, THT, L18 x W5 x H11mm, 27nF, 275V; Manufacturer Part Number: 890324025004CS; Manufacturer: Wurth Elektronik; Capacitance Tolerance: +/-10%; Dissipation Factor @1kHz: 0.1%; Dissipation Factor @100kHz: 0.5%; Insulation Resistance: 30GΩ; Pitch: 15mm; Rate of Voltage Rise: 300V/μs; Technical Reference: MX2P015273K275ACPP45004; Category: Film Capacitors; Match Code: WCAP-FTX2; ComponentLink1Description: Website Link; ComponentLink1URL: https://www.we-online.com/redexpert/article/890324025004CS?ad; ComponentLink2Description: Datasheet Link; ComponentLink2URL: https://www.we-online.com/redexpert/spec/890324025004CS?ad; Mount: Through Hole; Min Operating Temperature: -40°C; Max Operating Temperature: 105°C; Packaging: Carton; Length: 18mm; Width: 5mm; Height: 11mm; Capacitance: 27nF; Dissipation Factor @10kHz: 0.1%; Rated Voltage (AC): 275V
footprint WCAP-FTX2_L18W5H11
simulation model 890324025004CS_27nF
pins: 1, 2

## 890324025006
designator C?, comment 33nF
WCAP-FTX2 Film Capacitor, THT, L18 x W5 x H11mm, 33nF, 275V; Manufacturer Part Number: 890324025006; Manufacturer: Wurth Elektronik; Capacitance Tolerance: +/-10%; Dissipation Factor @1kHz: 0.1%; Dissipation Factor @100kHz: 0.5%; Insulation Resistance: 30GΩ; Pitch: 15mm; Rate of Voltage Rise: 300V/μs; Technical Reference: MX2P015333K275ASPB16000; Category: Film Capacitors; Match Code: WCAP-FTX2; ComponentLink1Description: Website Link; ComponentLink1URL: https://www.we-online.com/redexpert/article/890324025006?ad; ComponentLink2Description: Datasheet Link; ComponentLink2URL: https://www.we-online.com/redexpert/spec/890324025006?ad; Mount: Through Hole; Min Operating Temperature: -40°C; Max Operating Temperature: 105°C; Packaging: Carton; Length: 18mm; Width: 5mm; Height: 11mm; Capacitance: 33nF; Dissipation Factor @10kHz: 0.1%; Rated Voltage (AC): 275V
footprint WCAP-FTX2_L18W5H11
simulation model 890324025006_33nF
pins: 1, 2

## 890324025006CS
designator C?, comment 33nF
WCAP-FTX2 Film Capacitor, THT, L18 x W5 x H11mm, 33nF, 275V; Manufacturer Part Number: 890324025006CS; Manufacturer: Wurth Elektronik; Capacitance Tolerance: +/-10%; Dissipation Factor @1kHz: 0.1%; Dissipation Factor @100kHz: 0.5%; Insulation Resistance: 30GΩ; Pitch: 15mm; Rate of Voltage Rise: 300V/μs; Technical Reference: MX2P015333K275ACPP46004; Category: Film Capacitors; Match Code: WCAP-FTX2; ComponentLink1Description: Website Link; ComponentLink1URL: https://www.we-online.com/redexpert/article/890324025006CS?ad; ComponentLink2Description: Datasheet Link; ComponentLink2URL: https://www.we-online.com/redexpert/spec/890324025006CS?ad; Mount: Through Hole; Min Operating Temperature: -40°C; Max Operating Temperature: 105°C; Packaging: Carton; Length: 18mm; Width: 5mm; Height: 11mm; Capacitance: 33nF; Dissipation Factor @10kHz: 0.1%; Rated Voltage (AC): 275V
footprint WCAP-FTX2_L18W5H11
simulation model 890324025006CS_33nF
pins: 1, 2

## 890324025007
designator C?, comment 39nF
WCAP-FTX2 Film Capacitor, THT, L18 x W5 x H11mm, 39nF, 275V; Manufacturer Part Number: 890324025007; Manufacturer: Wurth Elektronik; Capacitance Tolerance: +/-10%; Dissipation Factor @1kHz: 0.1%; Dissipation Factor @100kHz: 0.5%; Insulation Resistance: 30GΩ; Pitch: 15mm; Rate of Voltage Rise: 300V/μs; Technical Reference: MX2P015393K275ASPB15000; Category: Film Capacitors; Match Code: WCAP-FTX2; ComponentLink1Description: Website Link; ComponentLink1URL: https://www.we-online.com/redexpert/article/890324025007?ad; ComponentLink2Description: Datasheet Link; ComponentLink2URL: https://www.we-online.com/redexpert/spec/890324025007?ad; Mount: Through Hole; Min Operating Temperature: -40°C; Max Operating Temperature: 105°C; Packaging: Carton; Length: 18mm; Width: 5mm; Height: 11mm; Capacitance: 39nF; Dissipation Factor @10kHz: 0.1%; Rated Voltage (AC): 275V
footprint WCAP-FTX2_L18W5H11
simulation model 890324025007_39nF
pins: 1, 2

## 890324025007CS
designator C?, comment 39nF
WCAP-FTX2 Film Capacitor, THT, L18 x W5 x H11mm, 39nF, 275V; Manufacturer Part Number: 890324025007CS; Manufacturer: Wurth Elektronik; Capacitance Tolerance: +/-10%; Dissipation Factor @1kHz: 0.1%; Dissipation Factor @100kHz: 0.5%; Insulation Resistance: 30GΩ; Pitch: 15mm; Rate of Voltage Rise: 300V/μs; Technical Reference: MX2P015393K275ACPP45004; Category: Film Capacitors; Match Code: WCAP-FTX2; ComponentLink1Description: Website Link; ComponentLink1URL: https://www.we-online.com/redexpert/article/890324025007CS?ad; ComponentLink2Description: Datasheet Link; ComponentLink2URL: https://www.we-online.com/redexpert/spec/890324025007CS?ad; Mount: Through Hole; Min Operating Temperature: -40°C; Max Operating Temperature: 105°C; Packaging: Carton; Length: 18mm; Width: 5mm; Height: 11mm; Capacitance: 39nF; Dissipation Factor @10kHz: 0.1%; Rated Voltage (AC): 275V
footprint WCAP-FTX2_L18W5H11
simulation model 890324025007CS_39nF
pins: 1, 2